# EAGLE library part WM8816 (library wm8816)
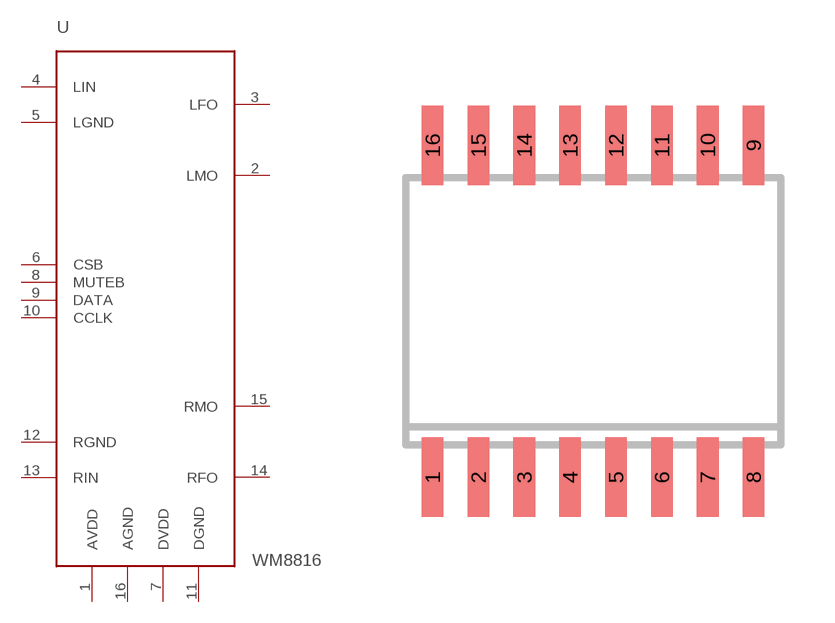
[diagram p0: symbol with the pads of SO16W; footprint SO16W]

Designator prefix U

## WM8816  [SO16W]
1  AVDD
2  LMO
3  LFO
4  LIN
5  LGND
6  CSB
7  DVDD
8  MUTEB
9  DATA
10  CCLK
11  DGND
12  RGND
13  RIN
14  RFO
15  RMO
16  AGND

## Footprint SO16W (pad centres in mm)
SMALL OUTLINE INTEGRATED CIRCUIT wide body 7.5 mm/JEDEC MS-013AA
smd 0.6 x 2.2: 1 -4.445,-4.6; 2 -3.175,-4.6; 3 -1.905,-4.6; 4 -0.635,-4.6; 5 0.635,-4.6; 6 1.905,-4.6; 7 3.175,-4.6; 8 4.445,-4.6; 9 4.445,4.6; 10 3.175,4.6; 11 1.905,4.6; 12 0.635,4.6; 13 -0.635,4.6; 14 -1.905,4.6; 15 -3.175,4.6; 16 -4.445,4.6